# Altium footprint library led.PcbLib: 2 footprints
Each footprint in its own frame and in the unit in brackets; x right, y up, seen from the top. Pads: shape width x height; smd on the part's side, far side on the other; paste and mask are expansions set on the pad; w line width, h text height; cw(c..) or ccw(c..) is an arc to the next point about the centre after c.
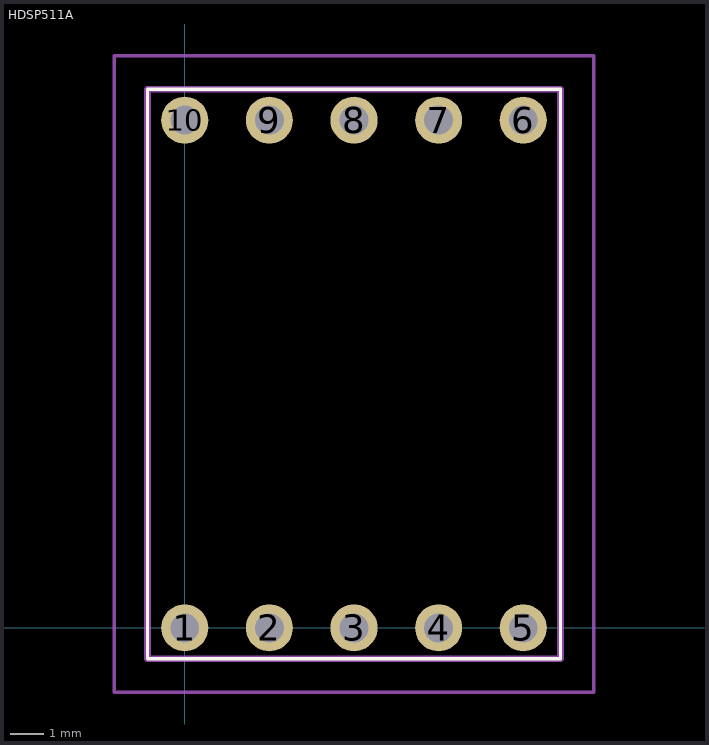
[diagram p0: the footprints below, top view; thin cyan lines are the x and y axes]

## HDSP511A [mm]
pads (10):
  round 1.414 hole 0.87: 1(0,0) 2(2.54,0) 3(5.08,0) 4(7.62,0) 5(10.16,0) 6(10.16,15.24) 7(7.62,15.24) 8(5.08,15.24) 9(2.54,15.24) 10(0,15.24)
Top Overlay:
  lines w0.1: -1.12,-0.93 -1.12,16.17 11.28,16.17 11.28,-0.93 -1.12,-0.93
Mechanical 13:
  lines w0.2: -1.12,-0.93 -1.12,16.17 11.28,16.17 11.28,-0.93 -1.12,-0.93
Mechanical 15:
  lines w0.1: -2.12,-1.93 -2.12,17.17 12.28,17.17 12.28,-1.93 -2.12,-1.93
3D body "HDSP-511A.stp": height 8.1, standoff -5, extent -1.12,-0.93 11.28,16.17

## PCBComponent_1 [mil]